# Altium footprint library URDiodo.PcbLib: 1 footprints
Each footprint in its own frame and in the unit in brackets; x right, y up, seen from the top. Pads: shape width x height; smd on the part's side, far side on the other; paste and mask are expansions set on the pad; w line width, h text height; cw(c..) or ccw(c..) is an arc to the next point about the centre after c.
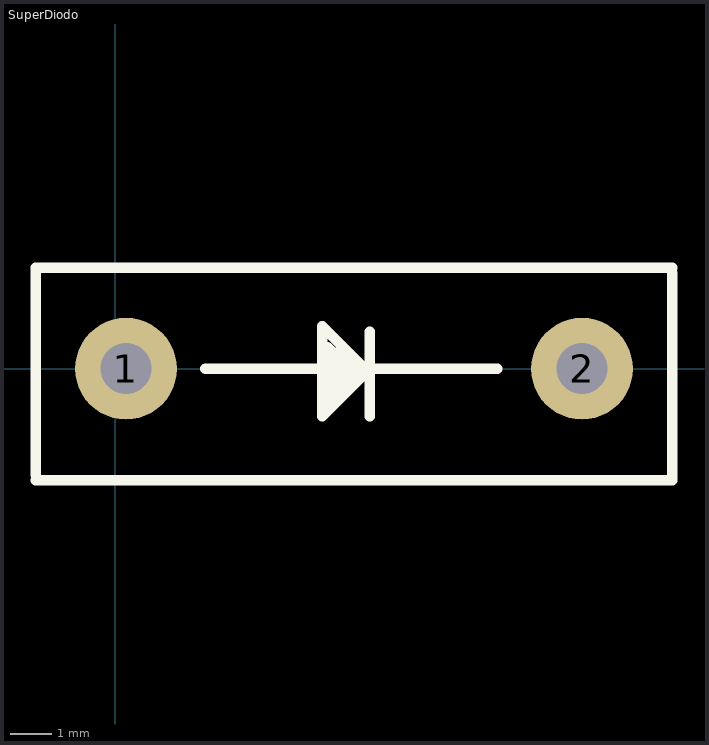
[diagram p0: the footprint, top view; thin cyan lines are the x and y axes]

## SuperDiodo [mil]
pads (2):
  round 96 hole 48: 1(10,0) 2(440,0)
Top Overlay:
  lines w10: -75,-105 525,-105 525,90 ; -75,-100 -75,95 525,95 ; 85,0 360,0 ; 195,0 200,0 ; 212.5,7.5 222.5,7.5 215,15 195,15 200,10 220,-10 220,0 200,20 200,0 ; 240,-45 240,35 ; 200,0 207.5,-7.5 212.5,-7.5 200,-20 200,-10 200,-30 222.5,-7.5 222.5,0 225,-2.5 237.5,-2.5 ; 237.5,-2.5 195,40 195,-45 237.5,-2.5